# Altium footprint library Ad - ESP-12F.PcbLib: 2 footprints
Each footprint in its own frame and in the unit in brackets; x right, y up, seen from the top. Pads: shape width x height; smd on the part's side, far side on the other; paste and mask are expansions set on the pad; w line width, h text height; cw(c..) or ccw(c..) is an arc to the next point about the centre after c.
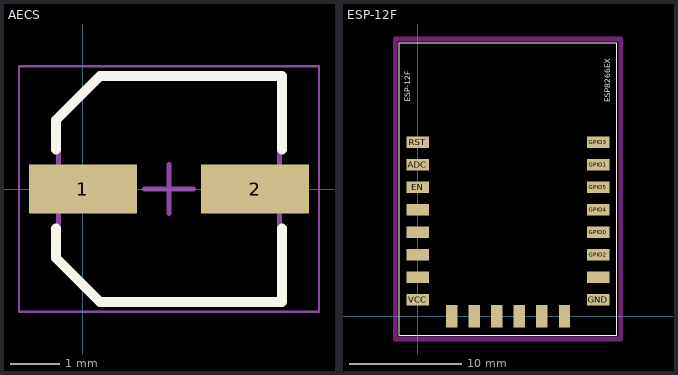
[diagram p0: the footprints below, top view; thin cyan lines are the x and y axes]

## AECS [mm] "Aluminum Electrolytic Capacitor, Body 4.30x4.30x5.90mm, IPC High Density"
height 5.9
pads (2):
  rect 2.2x1 smd: 1(0,0) 2(3.5,0)
Top Overlay:
  lines w0.2: -0.55,-0.8 -0.55,-1.4 0.35,-2.3 4.05,-2.3 4.05,-0.8 ; -0.55,0.8 -0.55,1.4 0.35,2.3 4.05,2.3 4.05,0.8
Mechanical 14:
  lines w0.1: -0.5,-1.375 0.375,-2.25 4,-2.25 4,2.25 0.375,2.25 -0.5,1.375 -0.5,-1.375
Mechanical 15:
  lines w0.05: -1.3,-2.5 -1.3,2.5 4.8,2.5 4.8,-2.5 -1.3,-2.5
  lines w0.1: 1.25,0 2.25,0 ; 1.75,-0.5 1.75,0.5
3D body "AECS.step": height 5.9, standoff 0, extent -0.65,-2.25 4.15,2.25

## ESP-12F [mm] "ESP8266 - ESP-12F WiFi Module"
height 3
pads (22):
  rect 2x1 smd: ADC(0,13.48) EN(0,11.48) GND(16,1.48) GPIO0(16,7.48) GPIO1(16,13.48) GPIO2(16,5.48) GPIO3(16,15.48) GPIO4(16,9.48) GPIO5(16,11.48) GPIO12(0,5.48) GPIO13(0,3.48) GPIO14(0,7.48) GPIO15(16,3.48) GPIO16(0,9.48) RST(0,15.48) VCC(0,1.48)
  rect 1x2 smd: ""(3,0) ""(5,0) ""(7,0) ""(9,0) ""(11,0) ""(13.01,0)
Top Overlay:
  lines w0.1: -1.67,-1.68 -1.67,24.31 17.66,24.31 17.66,-1.68 -1.67,-1.68
  text "ESP8266EX" at 17.09,19.04 h0.5
  text "ESP-12F" at -0.68,19.07 h0.5
Keep-Out Layer:
  lines w0.4: -2,-1.1 -2,24.65 18,24.65 18,-2 0.1,-2 ; -2,-1.02 -2,-2 0.16,-2
3D body: height 2.9, standoff 0.1, extent 0.6,0.6 15.4,16.45
3D body: height 0.1, standoff 0, extent 0,-0.1 16.1,24